# EAGLE library part STK681 (library IUTV3)
PUSH-PULL 4 CHANNEL DRIVER
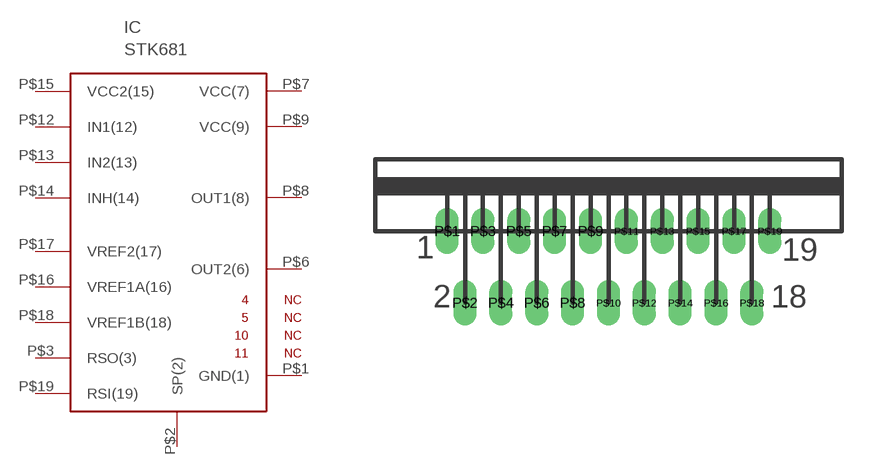
[diagram p49: symbol with the pads of STK681; footprint STK681]

Designator prefix IC

## STK681  [STK681]
P$1  GND(1)  in
P$2  SP(2)
P$3  RSO(3)  out
P$6  OUT2(6)  in
P$7  VCC(7)  out
P$8  OUT1(8)  out
P$9  VCC(9)
P$12  IN1(12)
P$13  IN2(13)
P$14  INH(14)
P$15  VCC2(15)
P$16  VREF1A(16)  in
P$17  VREF2(17)  in
P$18  VREF1B(18)  out
P$19  RSI(19)  out

## Footprint STK681 (pad centres in mm)
Multiwatt 15 lead
drill 0.5 pad 1.27 long: P$1 -20,-1; P$2 -19,-5; P$3 -18,-1; P$4 -17,-5; P$5 -16,-1; P$6 -15,-5; P$7 -14,-1; P$8 -13,-5; P$9 -12,-1; P$10 -11,-5; P$11 -10,-1; P$12 -9,-5; P$13 -8,-1; P$14 -7,-5; P$15 -6,-1; P$16 -5,-5; P$17 -4,-1; P$18 -3,-5; P$19 -2,-1